# EAGLE library part STK4241/2 (library Audio-Power-amlifier V.2.0)
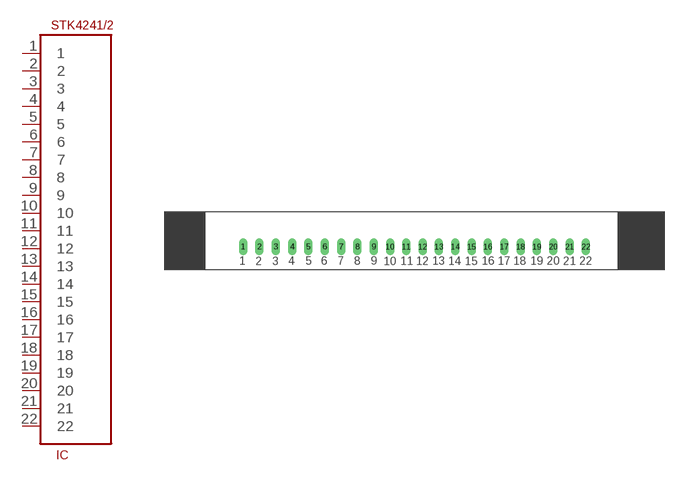
[diagram p31: symbol with the pads of STK4241/2; footprint STK4241/2]

Designator prefix IC

## STK4241/2  [STK4241/2]
1  1
2  2
3  3  in
4  4  in
5  5  pwr
6  6
7  7
8  8
9  9
10  10
11  11  pwr
12  12  out
13  13  pwr
14  14  pwr
15  15  out
16  16  pwr
17  17
18  18  pwr
19  19  in
20  20  in
21  21
22  22

## Footprint STK4241/2 (pad centres in mm)
drill 0.8 long: 1 -26.67,-1; 2 -24.13,-1; 3 -21.59,-1; 4 -19.05,-1; 5 -16.51,-1; 6 -13.97,-1; 7 -11.43,-1; 8 -8.89,-1; 9 -6.35,-1; 10 -3.81,-1; 11 -1.27,-1; 12 1.27,-1; 13 3.81,-1; 14 6.35,-1; 15 8.89,-1; 16 11.43,-1; 17 13.97,-1; 18 16.51,-1; 19 19.05,-1; 20 21.59,-1; 21 24.13,-1; 22 26.67,-1